# Altium footprint library Soldeer Station Footprints.PcbLib: 32 footprints (part 2 of 2)
Each footprint in its own frame and in the unit in brackets; x right, y up, seen from the top. Pads: shape width x height; smd on the part's side, far side on the other; paste and mask are expansions set on the pad; w line width, h text height; cw(c..) or ccw(c..) is an arc to the next point about the centre after c.
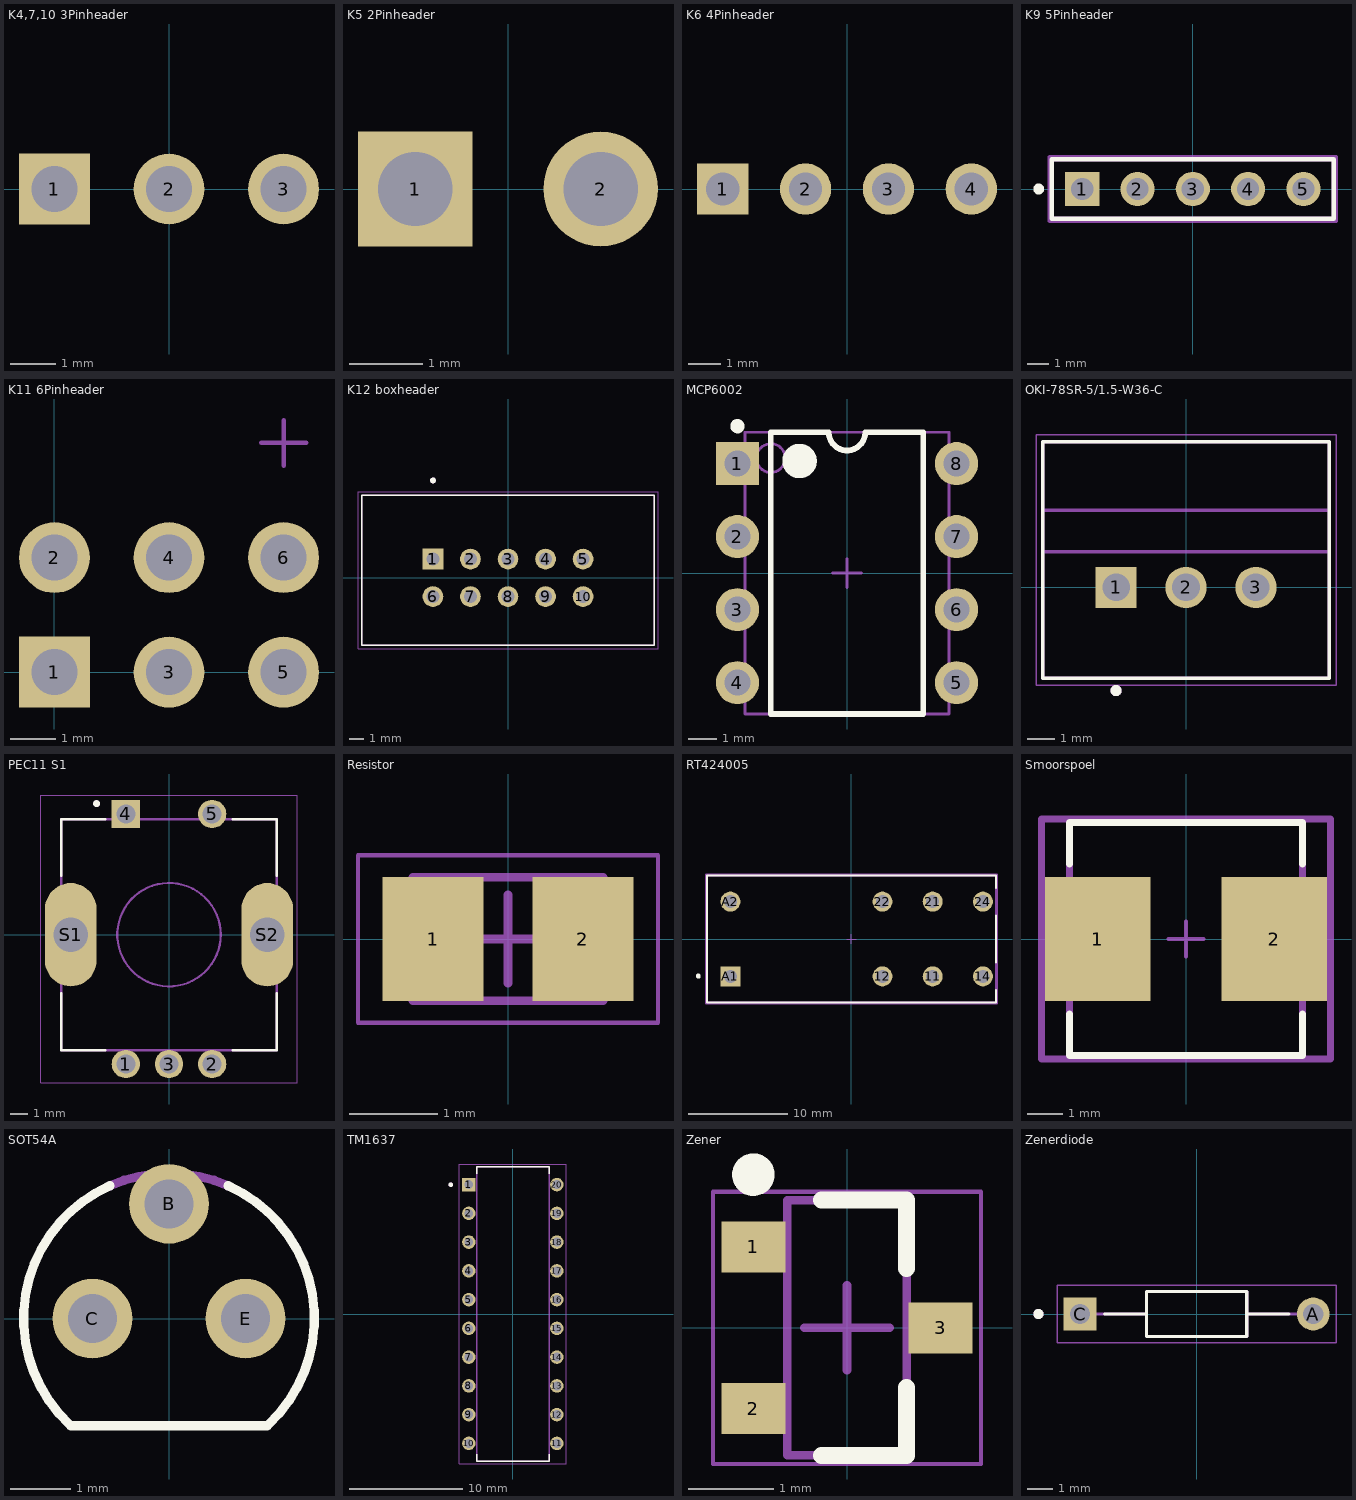
[diagram p1: the footprints below, top view; thin cyan lines are the x and y axes]

## K4,7,10 3Pinheader [mm]
pads (3):
  rect 1.57x1.57 hole 1.02 paste-2539.97 mask+0: 1(-2.54,0)
  round 1.57 hole 1.02 paste-2539.97 mask+0: 2(0,0) 3(2.54,0)
Top Component Center:
  lines w0.1: 2.04,0 3.04,0 ; 2.54,-0.5 2.54,0.5

## K5 2Pinheader [mm]
pads (2):
  rect 1.57x1.57 hole 1.02 paste-2539.97 mask+0: 1(-1.27,0)
  round 1.57 hole 1.02 paste-2539.97 mask+0: 2(1.27,0)
Top Component Center:
  lines w0.1: 0.77,0 1.77,0 ; 1.27,-0.5 1.27,0.5

## K6 4Pinheader [mm]
pads (4):
  rect 1.57x1.57 hole 1.02 paste-2539.97 mask+0: 1(-3.81,0)
  round 1.57 hole 1.02 paste-2539.97 mask+0: 2(-1.27,0) 3(1.27,0) 4(3.81,0)
Top Component Center:
  lines w0.1: 0.77,0 1.77,0 ; 1.27,-0.5 1.27,0.5

## K9 5Pinheader [mm]
pads (5):
  rect 1.57x1.57 hole 1.02 paste-2539.97 mask+0: 1(-5.08,0)
  round 1.57 hole 1.02 paste-2539.97 mask+0: 2(-2.54,0) 3(0,0) 4(2.54,0) 5(5.08,0)
Top Overlay:
  circle w0.25: c-7.075,0 r0.125
  lines w0.2: -6.475,-1.37 6.475,-1.37 6.475,1.37 -6.475,1.37 -6.475,-1.37
Top 3D Body:
  lines w0.2: -6.475,-1.37 6.475,-1.37 6.475,1.37 -6.475,1.37 -6.475,-1.37
Top Courtyard:
  lines w0.2: -6.575,-1.47 6.575,-1.47 6.575,1.47 -6.575,1.47 -6.575,-1.47
Top Assembly:
  lines w0.2: -6.575,-1.47 6.575,-1.47 6.575,1.47 -6.575,1.47 -6.575,-1.47
  text ".Designator" at 0,0.188 h1
Top Component Center:
  lines w0.1: -0.5,0 0.5,0 ; 0,-0.5 0,0.5
3D body "Conn_Molex_22-28-4050_eec.STEP": height 0.25, standoff 0, extent -6.575,-1.47 6.575,1.47

## K11 6Pinheader [mm]
pads (6):
  rect 1.57x1.57 hole 1.02 paste-2539.97 mask+0: 1(0,0)
  round 1.57 hole 1.02 paste-2539.97 mask+0: 2(0,2.54) 3(2.54,0) 4(2.54,2.54) 5(5.08,0) 6(5.08,2.54)
Top Component Center:
  lines w0.1: 4.58,5.08 5.58,5.08 ; 5.08,4.58 5.08,5.58

## K12 boxheader [mm]
pads (10):
  rect 1.398x1.398 hole 0.89: 1(-5.08,1.27)
  round 1.398 hole 0.89: 2(-2.54,1.27) 3(0,1.27) 4(2.54,1.27) 5(5.08,1.27) 6(-5.08,-1.27) 7(-2.54,-1.27) 8(0,-1.27) 9(2.54,-1.27) 10(5.08,-1.27)
Top Overlay:
  circle w0.2: c-5.08,6.588 r0.1
  lines w0.127: -9.906,-4.572 9.906,-4.572 9.906,5.588 -9.906,5.588 -9.906,-4.572
Mechanical 13:
  circle w0.2: c-5.08,6.588 r0.1
  lines w0.127: -9.906,-4.572 9.906,-4.572 9.906,5.588 -9.906,5.588 -9.906,-4.572
Mechanical 15:
  lines w0.05: -10.156,-4.822 10.156,-4.822 10.156,5.838 -10.156,5.838 -10.156,-4.822

## MCP6002 [mm] "8-Pin Plastic Dual In-Line Package (PDIP)"
height 5.34
pads (8):
  rect 1.5x1.5 hole 0.9: 1(-3.81,3.81)
  round 1.5 hole 0.9: 2(-3.81,1.27) 3(-3.81,-1.27) 4(-3.81,-3.81) 5(3.81,-3.81) 6(3.81,-1.27) 7(3.81,1.27) 8(3.81,3.81)
Top Overlay:
  circle w0.6: c-1.65,3.9 r0.3
  circle w0.25: c-3.81,5.11 r0.125
  lines w0.2: -2.65,-4.9 2.65,-4.9 2.65,4.9 0.635,4.9 cw(c0,4.9) -0.635,4.9 -2.65,4.9 -2.65,-4.9
Mechanical 13:
  circle w0.1: c-2.65,4 r0.5
  lines w0.1: -3.55,-4.9 3.55,-4.9 3.55,4.9 -3.55,4.9 -3.55,-4.9
Mechanical 15:
  lines w0.1: -0.5,0 0.5,0 ; 0,-0.5 0,0.5
3D body: height 4.32, standoff 0, extent -3.55,-4.9 3.55,4.9

## OKI-78SR-5/1.5-W36-C [mm]
pads (3):
  rect 1.5x1.5 hole 1: 1(-2.54,0)
  round 1.5 hole 1: 2(0,0) 3(2.54,0)
Top Overlay:
  circle w0.2: c-2.54,-3.75 r0.1
  lines w0.127: -5.2,-3.3 5.2,-3.3 5.2,5.3 -5.2,5.3 -5.2,-3.3
Mechanical 13:
  circle w0.2: c-2.54,-3.75 r0.1
  lines w0.127: -5.2,1.3 -5.2,-3.3 5.2,-3.3 5.2,1.3 ; -5.2,1.3 -5.2,2.8 ; -5.2,1.3 5.2,1.3 ; -5.2,2.8 -5.2,5.3 5.2,5.3 5.2,2.8 ; -5.2,2.8 5.2,2.8 ; 5.2,1.3 5.2,2.8
Mechanical 15:
  lines w0.05: -5.45,-3.55 5.45,-3.55 5.45,5.55 -5.45,5.55 -5.45,-3.55

## PEC11 S1 [mm]
pads (7):
  round 1.65 hole 1.1: 1(-2.5,-7.5) 2(2.5,-7.5) 3(0,-7.5) 5(2.5,7)
  rect 1.65x1.65 hole 1.1: 4(-2.5,7)
  oval 3x6 hole 2 square: S1(-5.7,0) S2(5.7,0)
Top Overlay:
  circle w0.2: c-4.2,7.6 r0.1
  lines w0.127: -6.25,-3.4 -6.25,-6.7 -3.7,-6.7 ; -6.25,3.4 -6.25,6.7 -3.7,6.7 ; 3.7,-6.7 6.25,-6.7 6.25,-3.4 ; 3.7,6.7 6.25,6.7 6.25,3.4
Mechanical 13:
  circle w0.127: c0,0 r3
  circle w0.2: c-4.2,7.6 r0.1
  lines w0.127: -6.25,-6.7 6.25,-6.7 6.25,6.7 -6.25,6.7 -6.25,-6.7
Mechanical 15:
  lines w0.05: -7.45,-8.6 -7.45,8.1 7.45,8.1 7.45,-8.6 -7.45,-8.6

## Resistor [mm] "Chip Resistor, 2-Leads, Body 2,00x1,25mm, IPC Medium Density"
height 0.6
pads (2):
  rect 1.15x1.4 smd: 1(-0.85,0) 2(0.85,0)
Mechanical 13:
  lines w0.1: -1.075,-0.7 -1.075,0.7 1.075,0.7 1.075,-0.7 -1.075,-0.7
Mechanical 15:
  lines w0.05: -1.7,-0.95 -1.7,0.95 1.7,0.95 1.7,-0.95 -1.7,-0.95
  lines w0.1: -0.5,0 0.5,0 ; 0,-0.5 0,0.5
3D body: height 0.6, standoff 0, extent -0.525,-0.7 0.525,0.7
3D body: height 0.6, standoff 0, extent -1.075,-0.7 -0.525,0.7
3D body: height 0.6, standoff 0, extent 0.525,-0.7 1.075,0.7

## RT424005 [mm]
pads (8):
  round 2 hole 1.3 paste-2539.97 mask+0: 11(8.15,-3.75) 12(3.11,-3.75) 14(13.19,-3.75) 21(8.15,3.75) 22(3.11,3.75) 24(13.19,3.75) A2(-12.15,3.75)
  rect 2x2 hole 1.3 paste-2539.97 mask+0: A1(-12.15,-3.75)
Top Overlay:
  circle w0.25: c-15.375,-3.725 r0.125
  lines w0.2: 14.5,-5.125 14.5,-6.35 -14.5,-6.35 -14.5,6.35 14.5,6.35 14.5,5.125 ; 14.5,-2.375 14.5,2.375
Top 3D Body:
  lines w0.2: -14.5,-6.35 -14.5,6.35 14.5,6.35 14.5,-6.35 -14.5,-6.35
Top Courtyard:
  lines w0.2: -14.6,-6.45 -14.6,6.45 14.6,6.45 14.6,-6.45 -14.6,-6.45
Top Assembly:
  lines w0.2: -14.6,-6.45 -14.6,6.45 14.6,6.45 14.6,-6.45 -14.6,-6.45
  text ".Designator" at 0,0.188 h1
Top Component Center:
  lines w0.1: -0.5,0 0.5,0 ; 0,-0.5 0,0.5
3D body "Relay_TE_Connectivity_RT424005_eec.STEP": height 0.25, standoff 0, extent -14.6,-6.45 14.6,6.45

## Smoorspoel [mm]
pads (2):
  rect 3x3.5 smd paste+0 mask+0: 1(-2.5,0) 2(2.5,0)
Top Overlay:
  lines w0.2: -3.3,-2.125 -3.3,-3.3 3.3,-3.3 3.3,-2.125 ; -3.3,2.125 -3.3,3.3 3.3,3.3 3.3,2.125
Top 3D Body:
  lines w0.2: -3.3,-3.3 3.3,-3.3 3.3,3.3 -3.3,3.3 -3.3,-3.3
Top Courtyard:
  lines w0.2: -4.1,-3.4 4.1,-3.4 4.1,3.4 -4.1,3.4 -4.1,-3.4
Top Assembly:
  lines w0.2: -4.1,-3.4 4.1,-3.4 4.1,3.4 -4.1,3.4 -4.1,-3.4
  text ".Designator" at 0,0.188 h1
Top Component Center:
  lines w0.1: -0.5,0 0.5,0 ; 0,-0.5 0,0.5
3D body "Ind_Murata_LQH66SN100M03L_eec.STEP": height 0.25, standoff 0, extent -4.1,-3.4 4.1,3.4

## SOT54A [mil]
pads (3):
  round 52 hole 32: B(0,75) C(-50,0) E(50,0)
Top Overlay:
  lines w6: -64.78,-69.48 cw(c0.01,0) -38.63,86.79 ; -64.21,-70 64.21,-70 ; 38.63,86.79 cw(c-0.01,0) 64.78,-69.48
Mechanical 13:
  lines w6: -38.64,86.79 cw(c0,0) 38.64,86.79
3D body "step_temp.STEP": height 304.72, standoff -65.35, extent -94.45,-60.35 94.45,94.49

## TM1637 [mm]
pads (20):
  rect 1.19x1.19 hole 0.79: 1(-3.89,11.43)
  round 1.19 hole 0.79: 2(-3.89,8.89) 3(-3.89,6.35) 4(-3.89,3.81) 5(-3.89,1.27) 6(-3.89,-1.27) 7(-3.89,-3.81) 8(-3.89,-6.35) 9(-3.89,-8.89) 10(-3.89,-11.43) 11(3.89,-11.43) 12(3.89,-8.89) 13(3.89,-6.35) 14(3.89,-3.81) 15(3.89,-1.27) 16(3.89,1.27) 17(3.89,3.81) 18(3.89,6.35) 19(3.89,8.89) 20(3.89,11.43)
Top Overlay:
  circle w0.2: c-5.485,11.43 r0.1
  lines w0.127: -3.2,-12.375 -3.2,-13 3.2,-13 3.2,-12.375 ; -3.2,12.375 -3.2,13 3.2,13 3.2,12.375
Mechanical 13:
  circle w0.2: c-5.485,11.43 r0.1
  lines w0.127: -3.2,-13 3.2,-13 3.2,13 -3.2,13 -3.2,-13
Mechanical 15:
  lines w0.05: -4.735,-13.25 -4.735,13.25 4.735,13.25 4.735,-13.25 -4.735,-13.25
3D body "step_temp.STEP": height 4.31, standoff -3.6, extent -4.03,-13 4.03,13

## Zener [mm] "SOT23, 3-Leads, Body 2.9x1.3 mm, Pitch 0.95 mm, IPC High Density - INF-SOT23_L"
height 1.1
pads (3):
  rect 0.75x0.6 smd: 1(-1.1,0.95) 2(-1.1,-0.95) 3(1.1,0)
Top Overlay:
  circle w0.25: c-1.1,1.8 r0.125
  lines w0.2: -0.3,-1.5 0.7,-1.5 0.7,-0.7 ; -0.3,1.5 0.7,1.5 0.7,0.7
Mechanical 13:
  lines w0.1: -0.7,-1.5 -0.7,1.5 0.7,1.5 0.7,-1.5 -0.7,-1.5
Mechanical 15:
  lines w0.05: -1.575,-1.6 -1.575,1.6 1.575,1.6 1.575,-1.6 -1.575,-1.6
  lines w0.1: -0.5,0 0.5,0 ; 0,-0.5 0,0.5
3D body: height 1.1, standoff 0.1, extent -0.7,-1.5 0.7,1.5

## Zenerdiode [mm]
height 2.28
pads (2):
  round 1.308 hole 0.8: A(4.64,0)
  rect 1.308x1.308 / inner round 1.308 / far side rect 1.308x1.308 hole 0.8: C(-4.64,0)
Top Overlay:
  circle w0.2: c-6.294,0 r0.1
  lines w0.127: -3.666,0 -1.995,0 ; 3.666,0 1.995,0 ; -1.995,0 -1.995,-0.895 1.995,-0.895 1.995,0 ; -1.995,0 -1.995,0.895 1.995,0.895 1.995,0
Mechanical 13:
  circle w0.2: c-6.294,0 r0.1
  lines w0.127: -4.64,0 -1.995,0 ; 4.64,0 1.995,0 ; -1.995,0 -1.995,-0.895 1.995,-0.895 1.995,0 ; -1.995,0 -1.995,0.895 1.995,0.895 1.995,0
Mechanical 15:
  lines w0.05: -5.544,-1.145 5.544,-1.145 5.544,1.145 -5.544,1.145 -5.544,-1.145